# Altium integrated library TI Microcontroller MSP430 16-bit Ultra-Low Power.IntLib: 1463 symbols (part 39 of 130)
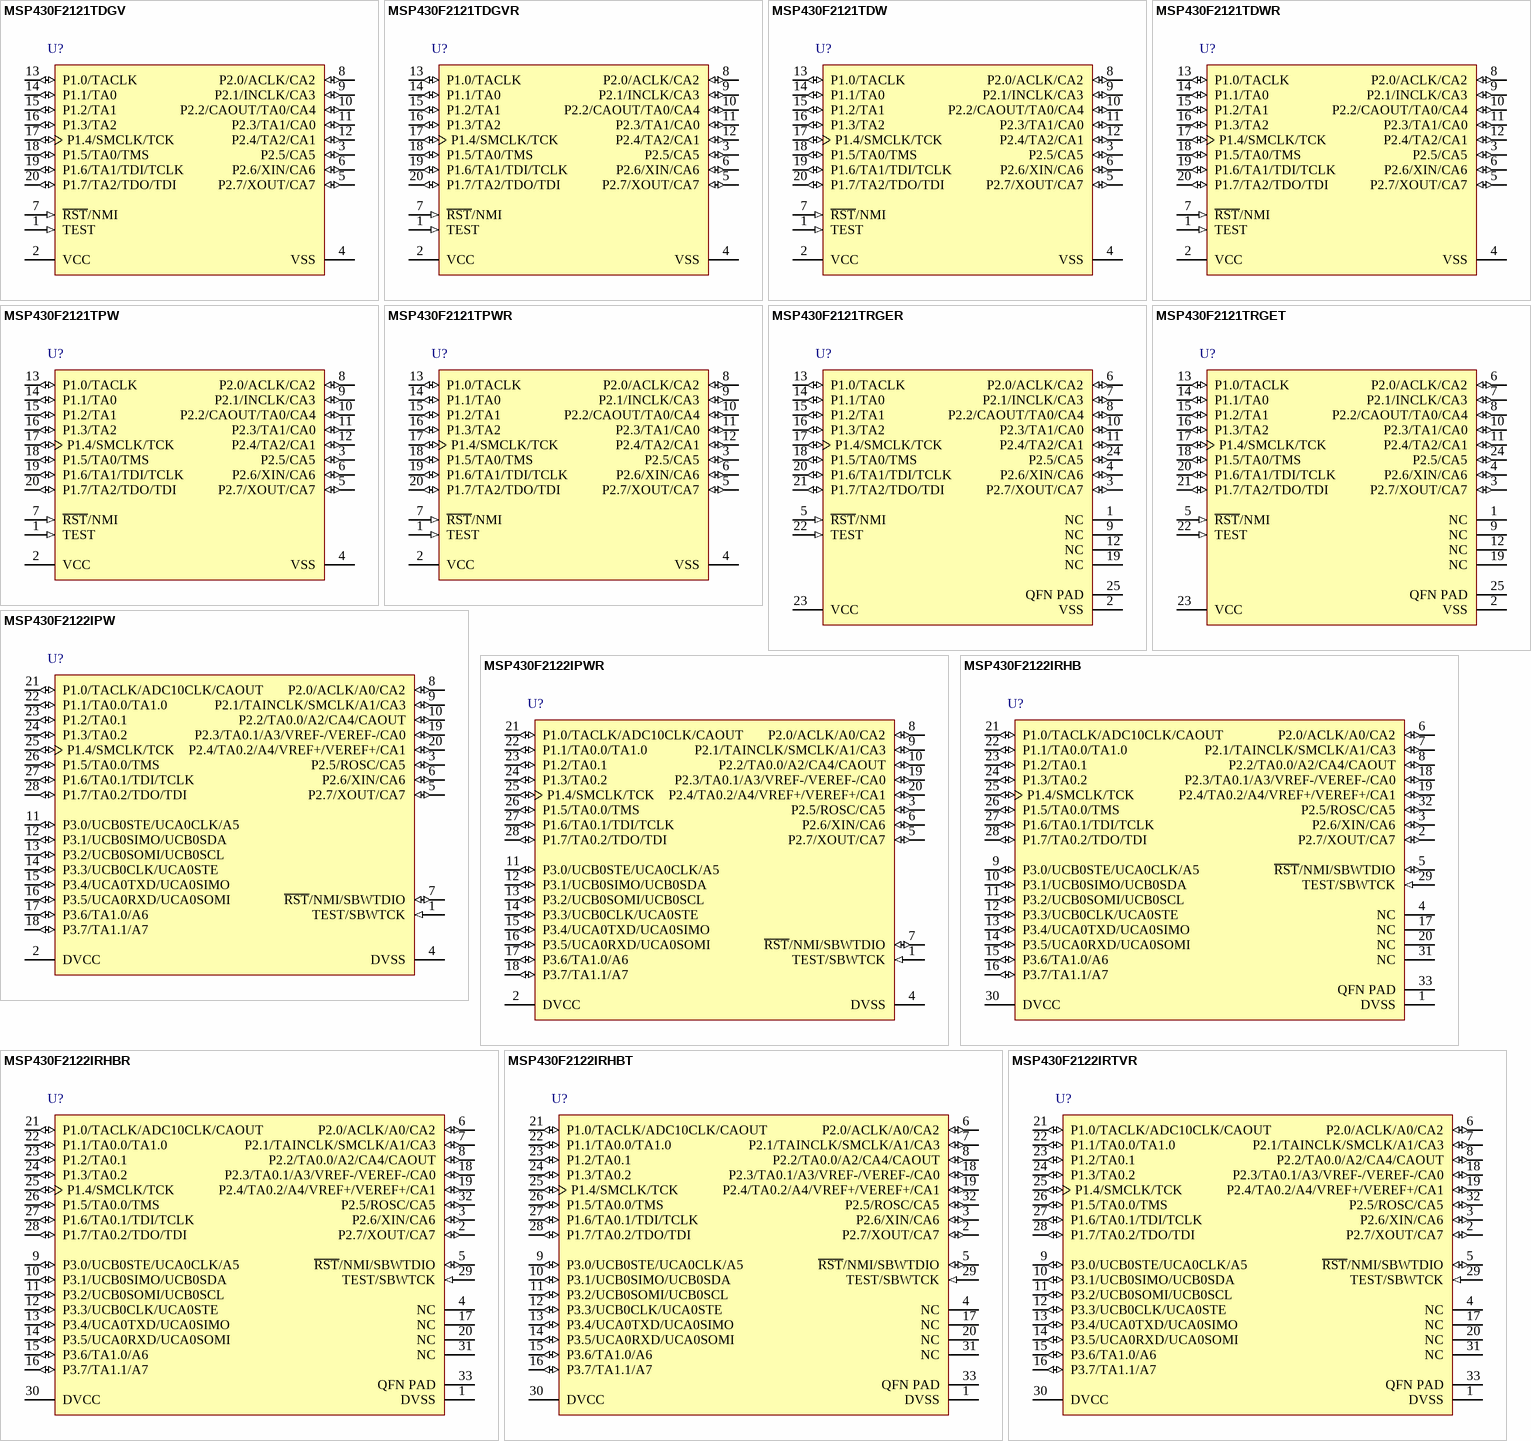
[diagram p256: symbols MSP430F2121TDGV to MSP430F2122IRTVR]

## MSP430F2122IRHB
designator U?
16 MHz Mixed Signal Microcontroller with 4 KB Flash, 512 B SRAM and 24 GPIOs, -40 to 85 degC, 32-pin QFN (RHB), Green (RoHS & no Sb/Br); Manufacturer: Texas Instruments; PartNumber: MSP430F2122IRHB; ADC: 10-bit SAR; ADC Channels: 8; Brown Out Reset: Yes; Flash(KB): 4; Frequency(MHz): 16; GPIO: 24; SRAM(B): 512; SubFamily: 2 Series, Extended Temp; Timers - 16-bit: 2; USCI_A (UART/LIN/IrDA/SPI): 1; DatasheetVersion: SLAS578J; PackageVersion: 4204326/D; PackageReference: RHB32-3450X3450TP; PackageDescription: 32-Pin Plastic Flat Pack, Body 5 x 5 mm, Pitch 0.5 mm; Supplier 1: Digi-Key; Supplier Part Number 1: 296-23363-2-ND; Supplier 2: Digi-Key; Supplier Part Number 2: 296-23363-1-ND; Supplier 3: Digi-Key; Supplier Part Number 3: 296-23363-6-ND; Supplier 4: Newark; Supplier Part Number 4: 96M3646; Supplier 5: Mouser; Supplier Part Number 5: 595-MSP430F2122IPWR; Comparators: Yes; Temp Sensor: Yes; USCI_B (I2C & SPI): 1; Watchdog: Yes; Mounting Technology: Surface Mount; Code_JEDEC: MO-220; ComponentLink1Description: Manufacturer URL; ComponentLink1URL: http://www.ti.com/; ComponentLink2Description: Datasheet; ComponentLink2URL: http://www.ti.com/general/docs/lit/getliterature.tsp?genericPartNumber=MSP430F2122&fileType=pdf; ComponentLink3Description: Package Specification; ComponentLink3URL: http://www.ti.com/lit/ml/mpqf130c/mpqf130c.pdf
footprint TI-RHB32-3450X3450TP_N (QFN, 32-Leads, Body 5x5mm, Pitch 0.5mm, Thermal Pad 3.45x3.45mm, IPC Medium Density)
pins: 1 DVSS (power) "Digital supply voltage", 2 P2.7/XOUT/CA7 (io), 3 P2.6/XIN/CA6 (io), 4 NC "Not connected internally. Connection to VSS is recommended.", 5 ~{RST}/NMI/SBWTDIO (io), 6 P2.0/ACLK/A0/CA2 (io), 7 P2.1/TAINCLK/SMCLK/A1/CA3 (io), 8 P2.2/TA0.0/A2/CA4/CAOUT (io), 9 P3.0/UCB0STE/UCA0CLK/A5 (io), 10 P3.1/UCB0SIMO/UCB0SDA (io), 11 P3.2/UCB0SOMI/UCB0SCL (io), 12 P3.3/UCB0CLK/UCA0STE (io), 13 P3.4/UCA0TXD/UCA0SIMO (io), 14 P3.5/UCA0RXD/UCA0SOMI (io), 15 P3.6/TA1.0/A6 (io), 16 P3.7/TA1.1/A7 (io), 17 NC "Not connected internally. Connection to VSS is recommended.", 18 P2.3/TA0.1/A3/VREF-/VEREF-/CA0 (io), 19 P2.4/TA0.2/A4/VREF+/VEREF+/CA1 (io), 20 NC "Not connected internally. Connection to VSS is recommended.", 21 P1.0/TACLK/ADC10CLK/CAOUT (io), 22 P1.1/TA0.0/TA1.0 (io), 23 P1.2/TA0.1 (io), 24 P1.3/TA0.2 (io), 25 P1.4/SMCLK/TCK (io), 26 P1.5/TA0.0/TMS (io), 27 P1.6/TA0.1/TDI/TCLK (io), 28 P1.7/TA0.2/TDO/TDI (io), 29 TEST/SBWTCK (in), 30 DVCC (power) "Digital supply voltage", 31 NC "Not connected internally. Connection to VSS is recommended.", 32 P2.5/ROSC/CA5 (io), 33 QFN PAD (power) "QFN package.pad (RHB, RTV packages). Connection to DVSS is recommended."

## MSP430F2122IRHBR
designator U?
16 MHz Mixed Signal Microcontroller with 4 KB Flash, 512 B SRAM and 24 GPIOs, -40 to 85 degC, 32-pin QFN (RHB), Green (RoHS & no Sb/Br); Manufacturer: Texas Instruments; PartNumber: MSP430F2122IRHBR; ADC: 10-bit SAR; ADC Channels: 8; Brown Out Reset: Yes; Flash(KB): 4; Frequency(MHz): 16; GPIO: 24; SRAM(B): 512; SubFamily: 2 Series, Extended Temp; Timers - 16-bit: 2; USCI_A (UART/LIN/IrDA/SPI): 1; DatasheetVersion: SLAS578J; PackageVersion: 4204326/D; PackageReference: RHB32-3450X3450TP; PackageDescription: 32-Pin Plastic Flat Pack, Body 5 x 5 mm, Pitch 0.5 mm; Supplier 1: Mouser; Supplier Part Number 1: N/A; Comparators: Yes; Eco-Plan: Green (RoHS & no Sb/Br); Temp Sensor: Yes; USCI_B (I2C & SPI): 1; Watchdog: Yes; Mounting Technology: Surface Mount; Code_JEDEC: MO-220; ComponentLink1Description: Manufacturer URL; ComponentLink1URL: http://www.ti.com/; ComponentLink2Description: Datasheet; ComponentLink2URL: http://www.ti.com/general/docs/lit/getliterature.tsp?genericPartNumber=MSP430F2122&fileType=pdf; ComponentLink3Description: Package Specification; ComponentLink3URL: http://www.ti.com/lit/ml/mpqf130c/mpqf130c.pdf
footprint TI-RHB32-3450X3450TP_N (QFN, 32-Leads, Body 5x5mm, Pitch 0.5mm, Thermal Pad 3.45x3.45mm, IPC Medium Density)
pins: 1 DVSS (power) "Digital supply voltage", 2 P2.7/XOUT/CA7 (io), 3 P2.6/XIN/CA6 (io), 4 NC "Not connected internally. Connection to VSS is recommended.", 5 ~{RST}/NMI/SBWTDIO (io), 6 P2.0/ACLK/A0/CA2 (io), 7 P2.1/TAINCLK/SMCLK/A1/CA3 (io), 8 P2.2/TA0.0/A2/CA4/CAOUT (io), 9 P3.0/UCB0STE/UCA0CLK/A5 (io), 10 P3.1/UCB0SIMO/UCB0SDA (io), 11 P3.2/UCB0SOMI/UCB0SCL (io), 12 P3.3/UCB0CLK/UCA0STE (io), 13 P3.4/UCA0TXD/UCA0SIMO (io), 14 P3.5/UCA0RXD/UCA0SOMI (io), 15 P3.6/TA1.0/A6 (io), 16 P3.7/TA1.1/A7 (io), 17 NC "Not connected internally. Connection to VSS is recommended.", 18 P2.3/TA0.1/A3/VREF-/VEREF-/CA0 (io), 19 P2.4/TA0.2/A4/VREF+/VEREF+/CA1 (io), 20 NC "Not connected internally. Connection to VSS is recommended.", 21 P1.0/TACLK/ADC10CLK/CAOUT (io), 22 P1.1/TA0.0/TA1.0 (io), 23 P1.2/TA0.1 (io), 24 P1.3/TA0.2 (io), 25 P1.4/SMCLK/TCK (io), 26 P1.5/TA0.0/TMS (io), 27 P1.6/TA0.1/TDI/TCLK (io), 28 P1.7/TA0.2/TDO/TDI (io), 29 TEST/SBWTCK (in), 30 DVCC (power) "Digital supply voltage", 31 NC "Not connected internally. Connection to VSS is recommended.", 32 P2.5/ROSC/CA5 (io), 33 QFN PAD (power) "QFN package.pad (RHB, RTV packages). Connection to DVSS is recommended."

## MSP430F2122IRHBT
designator U?
16 MHz Mixed Signal Microcontroller with 4 KB Flash, 512 B SRAM and 24 GPIOs, -40 to 85 degC, 32-pin QFN (RHB), Green (RoHS & no Sb/Br); Manufacturer: Texas Instruments; PartNumber: MSP430F2122IRHBT; ADC: 10-bit SAR; ADC Channels: 8; Brown Out Reset: Yes; Flash(KB): 4; Frequency(MHz): 16; GPIO: 24; SRAM(B): 512; SubFamily: 2 Series, Extended Temp; Timers - 16-bit: 2; USCI_A (UART/LIN/IrDA/SPI): 1; DatasheetVersion: SLAS578J; PackageVersion: 4204326/D; PackageReference: RHB32-3450X3450TP; PackageDescription: 32-Pin Plastic Flat Pack, Body 5 x 5 mm, Pitch 0.5 mm; Supplier 1: Digi-Key; Supplier Part Number 1: 296-23364-2-ND; Supplier 2: Digi-Key; Supplier Part Number 2: 296-23364-1-ND; Supplier 3: Digi-Key; Supplier Part Number 3: 296-23364-6-ND; Supplier 4: Farnell; Supplier Part Number 4: 1903428; Supplier 5: Newark; Supplier Part Number 5: 58T9813; Supplier 6: Newark; Supplier Part Number 6: 96M3647; Supplier 7: Mouser; Supplier Part Number 7: 595-MSP430F2122IRHBR; Comparators: Yes; Eco-Plan: Green (RoHS & no Sb/Br); Temp Sensor: Yes; USCI_B (I2C & SPI): 1; Watchdog: Yes; Mounting Technology: Surface Mount; Code_JEDEC: MO-220; ComponentLink1Description: Manufacturer URL; ComponentLink1URL: http://www.ti.com/; ComponentLink2Description: Datasheet; ComponentLink2URL: http://www.ti.com/general/docs/lit/getliterature.tsp?genericPartNumber=MSP430F2122&fileType=pdf; ComponentLink3Description: Package Specification; ComponentLink3URL: http://www.ti.com/lit/ml/mpqf130c/mpqf130c.pdf
footprint TI-RHB32-3450X3450TP_N (QFN, 32-Leads, Body 5x5mm, Pitch 0.5mm, Thermal Pad 3.45x3.45mm, IPC Medium Density)
pins: 1 DVSS (power) "Digital supply voltage", 2 P2.7/XOUT/CA7 (io), 3 P2.6/XIN/CA6 (io), 4 NC "Not connected internally. Connection to VSS is recommended.", 5 ~{RST}/NMI/SBWTDIO (io), 6 P2.0/ACLK/A0/CA2 (io), 7 P2.1/TAINCLK/SMCLK/A1/CA3 (io), 8 P2.2/TA0.0/A2/CA4/CAOUT (io), 9 P3.0/UCB0STE/UCA0CLK/A5 (io), 10 P3.1/UCB0SIMO/UCB0SDA (io), 11 P3.2/UCB0SOMI/UCB0SCL (io), 12 P3.3/UCB0CLK/UCA0STE (io), 13 P3.4/UCA0TXD/UCA0SIMO (io), 14 P3.5/UCA0RXD/UCA0SOMI (io), 15 P3.6/TA1.0/A6 (io), 16 P3.7/TA1.1/A7 (io), 17 NC "Not connected internally. Connection to VSS is recommended.", 18 P2.3/TA0.1/A3/VREF-/VEREF-/CA0 (io), 19 P2.4/TA0.2/A4/VREF+/VEREF+/CA1 (io), 20 NC "Not connected internally. Connection to VSS is recommended.", 21 P1.0/TACLK/ADC10CLK/CAOUT (io), 22 P1.1/TA0.0/TA1.0 (io), 23 P1.2/TA0.1 (io), 24 P1.3/TA0.2 (io), 25 P1.4/SMCLK/TCK (io), 26 P1.5/TA0.0/TMS (io), 27 P1.6/TA0.1/TDI/TCLK (io), 28 P1.7/TA0.2/TDO/TDI (io), 29 TEST/SBWTCK (in), 30 DVCC (power) "Digital supply voltage", 31 NC "Not connected internally. Connection to VSS is recommended.", 32 P2.5/ROSC/CA5 (io), 33 QFN PAD (power) "QFN package.pad (RHB, RTV packages). Connection to DVSS is recommended."

## MSP430F2122IRTVR
designator U?
16 MHz Mixed Signal Microcontroller with 4 KB Flash, 512 B SRAM and 24 GPIOs, -40 to 85 degC, 32-pin QFN (RTV), Green (RoHS & no Sb/Br); Manufacturer: Texas Instruments; PartNumber: MSP430F2122IRTVR; ADC: 10-bit SAR; ADC Channels: 8; Brown Out Reset: Yes; Flash(KB): 4; Frequency(MHz): 16; GPIO: 24; SRAM(B): 512; SubFamily: 2 Series, Extended Temp; Timers - 16-bit: 2; USCI_A (UART/LIN/IrDA/SPI): 1; DatasheetVersion: SLAS578J; PackageReference: RTV32-3450X3450TP; PackageDescription: 32-Pin Plastic Flat Pack, Body 5.00 x 5.00 mm, Pitch 0.50 mm; Supplier 1: Digi-Key; Supplier Part Number 1: 296-32166-2-ND; Supplier 2: Digi-Key; Supplier Part Number 2: 296-32166-1-ND; Supplier 3: Digi-Key; Supplier Part Number 3: 296-32166-6-ND; Supplier 4: Farnell; Supplier Part Number 4: 1649412; Supplier 5: Newark; Supplier Part Number 5: 96M3648; Supplier 6: Mouser; Supplier Part Number 6: 595-MSP430F2122IRHBT; Comparators: Yes; Eco-Plan: Green (RoHS & no Sb/Br); Temp Sensor: Yes; USCI_B (I2C & SPI): 1; Watchdog: Yes; Mounting Technology: Surface Mount; Code_JEDEC: MO-220; ComponentLink1Description: Manufacturer URL; ComponentLink1URL: http://www.ti.com/; ComponentLink2Description: Datasheet; ComponentLink2URL: http://www.ti.com/general/docs/lit/getliterature.tsp?genericPartNumber=MSP430F2122&fileType=pdf; ComponentLink3Description: Package Specification; ComponentLink3URL: http://www.ti.com/litv/pdf/mpqf166b
footprint TI-RTV32-3450X3450TP_N (QFN, 32-Leads, Body 5x5mm, Pitch 0.5mm, Thermal Pad 3.45x3.45mm, IPC Medium Density)
pins: 1 DVSS (power) "Digital supply voltage", 2 P2.7/XOUT/CA7 (io), 3 P2.6/XIN/CA6 (io), 4 NC "Not connected internally. Connection to VSS is recommended.", 5 ~{RST}/NMI/SBWTDIO (io), 6 P2.0/ACLK/A0/CA2 (io), 7 P2.1/TAINCLK/SMCLK/A1/CA3 (io), 8 P2.2/TA0.0/A2/CA4/CAOUT (io), 9 P3.0/UCB0STE/UCA0CLK/A5 (io), 10 P3.1/UCB0SIMO/UCB0SDA (io), 11 P3.2/UCB0SOMI/UCB0SCL (io), 12 P3.3/UCB0CLK/UCA0STE (io), 13 P3.4/UCA0TXD/UCA0SIMO (io), 14 P3.5/UCA0RXD/UCA0SOMI (io), 15 P3.6/TA1.0/A6 (io), 16 P3.7/TA1.1/A7 (io), 17 NC "Not connected internally. Connection to VSS is recommended.", 18 P2.3/TA0.1/A3/VREF-/VEREF-/CA0 (io), 19 P2.4/TA0.2/A4/VREF+/VEREF+/CA1 (io), 20 NC "Not connected internally. Connection to VSS is recommended.", 21 P1.0/TACLK/ADC10CLK/CAOUT (io), 22 P1.1/TA0.0/TA1.0 (io), 23 P1.2/TA0.1 (io), 24 P1.3/TA0.2 (io), 25 P1.4/SMCLK/TCK (io), 26 P1.5/TA0.0/TMS (io), 27 P1.6/TA0.1/TDI/TCLK (io), 28 P1.7/TA0.2/TDO/TDI (io), 29 TEST/SBWTCK (in), 30 DVCC (power) "Digital supply voltage", 31 NC "Not connected internally. Connection to VSS is recommended.", 32 P2.5/ROSC/CA5 (io), 33 QFN PAD (power) "QFN package.pad (RHB, RTV packages). Connection to DVSS is recommended."

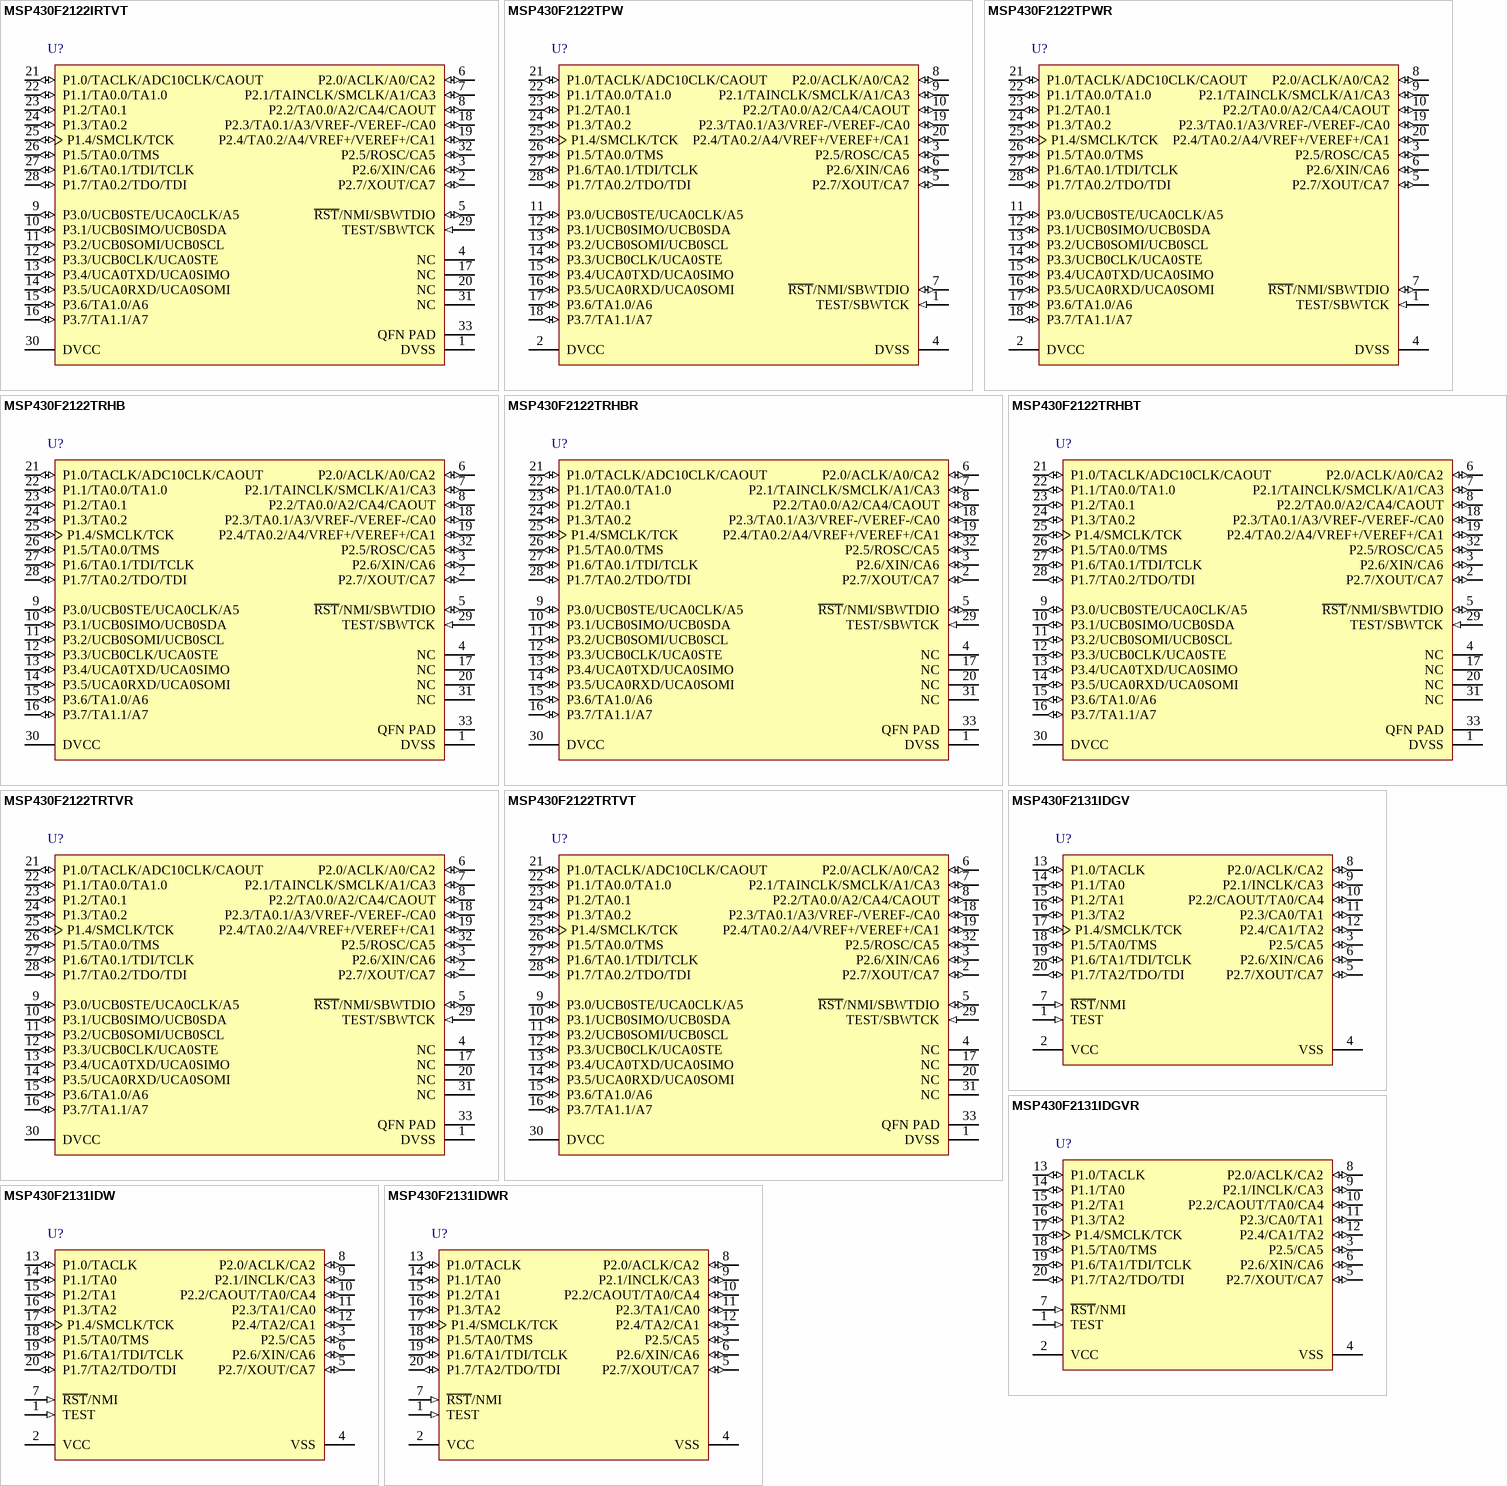
[diagram p56: symbols MSP430F2122IRTVT to MSP430F2131IDWR]

## MSP430F2122IRTVT
designator U?
16 MHz Mixed Signal Microcontroller with 4 KB Flash, 512 B SRAM and 24 GPIOs, -40 to 85 degC, 32-pin QFN (RTV), Green (RoHS & no Sb/Br); Manufacturer: Texas Instruments; PartNumber: MSP430F2122IRTVT; ADC: 10-bit SAR; ADC Channels: 8; Brown Out Reset: Yes; Flash(KB): 4; Frequency(MHz): 16; GPIO: 24; SRAM(B): 512; SubFamily: 2 Series, Extended Temp; Timers - 16-bit: 2; USCI_A (UART/LIN/IrDA/SPI): 1; DatasheetVersion: SLAS578J; PackageReference: RTV32-3450X3450TP; PackageDescription: 32-Pin Plastic Flat Pack, Body 5.00 x 5.00 mm, Pitch 0.50 mm; Supplier 1: Digi-Key; Supplier Part Number 1: MSP430F2122IRTVR-ND; Supplier 2: Mouser; Supplier Part Number 2: 595-MSP430F2122IRTVR; Comparators: Yes; Eco-Plan: Green (RoHS & no Sb/Br); Temp Sensor: Yes; USCI_B (I2C & SPI): 1; Watchdog: Yes; Mounting Technology: Surface Mount; Code_JEDEC: MO-220; ComponentLink1Description: Manufacturer URL; ComponentLink1URL: http://www.ti.com/; ComponentLink2Description: Datasheet; ComponentLink2URL: http://www.ti.com/general/docs/lit/getliterature.tsp?genericPartNumber=MSP430F2122&fileType=pdf; ComponentLink3Description: Package Specification; ComponentLink3URL: http://www.ti.com/litv/pdf/mpqf166b
footprint TI-RTV32-3450X3450TP_N (QFN, 32-Leads, Body 5x5mm, Pitch 0.5mm, Thermal Pad 3.45x3.45mm, IPC Medium Density)
pins: 1 DVSS (power) "Digital supply voltage", 2 P2.7/XOUT/CA7 (io), 3 P2.6/XIN/CA6 (io), 4 NC "Not connected internally. Connection to VSS is recommended.", 5 ~{RST}/NMI/SBWTDIO (io), 6 P2.0/ACLK/A0/CA2 (io), 7 P2.1/TAINCLK/SMCLK/A1/CA3 (io), 8 P2.2/TA0.0/A2/CA4/CAOUT (io), 9 P3.0/UCB0STE/UCA0CLK/A5 (io), 10 P3.1/UCB0SIMO/UCB0SDA (io), 11 P3.2/UCB0SOMI/UCB0SCL (io), 12 P3.3/UCB0CLK/UCA0STE (io), 13 P3.4/UCA0TXD/UCA0SIMO (io), 14 P3.5/UCA0RXD/UCA0SOMI (io), 15 P3.6/TA1.0/A6 (io), 16 P3.7/TA1.1/A7 (io), 17 NC "Not connected internally. Connection to VSS is recommended.", 18 P2.3/TA0.1/A3/VREF-/VEREF-/CA0 (io), 19 P2.4/TA0.2/A4/VREF+/VEREF+/CA1 (io), 20 NC "Not connected internally. Connection to VSS is recommended.", 21 P1.0/TACLK/ADC10CLK/CAOUT (io), 22 P1.1/TA0.0/TA1.0 (io), 23 P1.2/TA0.1 (io), 24 P1.3/TA0.2 (io), 25 P1.4/SMCLK/TCK (io), 26 P1.5/TA0.0/TMS (io), 27 P1.6/TA0.1/TDI/TCLK (io), 28 P1.7/TA0.2/TDO/TDI (io), 29 TEST/SBWTCK (in), 30 DVCC (power) "Digital supply voltage", 31 NC "Not connected internally. Connection to VSS is recommended.", 32 P2.5/ROSC/CA5 (io), 33 QFN PAD (power) "QFN package.pad (RHB, RTV packages). Connection to DVSS is recommended."

## MSP430F2122TPW
designator U?
16 MHz Mixed Signal Microcontroller with 4 KB Flash, 512 B SRAM and 24 GPIOs, -40 to 105 degC, 28-pin SOP (PW), Green (RoHS & no Sb/Br); Manufacturer: Texas Instruments; PartNumber: MSP430F2122TPW; ADC: 10-bit SAR; ADC Channels: 8; Brown Out Reset: Yes; Flash(KB): 4; Frequency(MHz): 16; GPIO: 24; SRAM(B): 512; SubFamily: 2 Series, Extended Temp; Timers - 16-bit: 2; USCI_A (UART/LIN/IrDA/SPI): 1; DatasheetVersion: SLAS578J; PackageVersion: 4040064-7/G; PackageReference: PW28; PackageDescription: 28-Pin Plastic Small Outline, Body 9.7 x 4.4 mm, Pitch 0.65 mm; Supplier 1: Digi-Key; Supplier Part Number 1: MSP430F2122IRTVT-ND; Supplier 2: Mouser; Supplier Part Number 2: 595-MSP430F2122IRTVT; Comparators: Yes; Eco-Plan: Green (RoHS & no Sb/Br); Temp Sensor: Yes; USCI_B (I2C & SPI): 1; Watchdog: Yes; Mounting Technology: Surface Mount; Code_JEDEC: MO-153; ComponentLink1Description: Manufacturer URL; ComponentLink1URL: http://www.ti.com/; ComponentLink2Description: Datasheet; ComponentLink2URL: http://www.ti.com/general/docs/lit/getliterature.tsp?genericPartNumber=MSP430F2122&fileType=pdf; ComponentLink3Description: Package Specification; ComponentLink3URL: http://www.ti.com/litv/pdf/mpds364
footprint TI-PW28_N (SOP, 28-Leads, Body 9.7x4.4mm, Pitch 0.65mm, IPC Medium Density)
pins: 1 TEST/SBWTCK (in), 2 DVCC (power) "Digital supply voltage", 3 P2.5/ROSC/CA5 (io), 4 DVSS (power) "Digital supply voltage", 5 P2.7/XOUT/CA7 (io), 6 P2.6/XIN/CA6 (io), 7 ~{RST}/NMI/SBWTDIO (io), 8 P2.0/ACLK/A0/CA2 (io), 9 P2.1/TAINCLK/SMCLK/A1/CA3 (io), 10 P2.2/TA0.0/A2/CA4/CAOUT (io), 11 P3.0/UCB0STE/UCA0CLK/A5 (io), 12 P3.1/UCB0SIMO/UCB0SDA (io), 13 P3.2/UCB0SOMI/UCB0SCL (io), 14 P3.3/UCB0CLK/UCA0STE (io), 15 P3.4/UCA0TXD/UCA0SIMO (io), 16 P3.5/UCA0RXD/UCA0SOMI (io), 17 P3.6/TA1.0/A6 (io), 18 P3.7/TA1.1/A7 (io), 19 P2.3/TA0.1/A3/VREF-/VEREF-/CA0 (io), 20 P2.4/TA0.2/A4/VREF+/VEREF+/CA1 (io), 21 P1.0/TACLK/ADC10CLK/CAOUT (io), 22 P1.1/TA0.0/TA1.0 (io), 23 P1.2/TA0.1 (io), 24 P1.3/TA0.2 (io), 25 P1.4/SMCLK/TCK (io), 26 P1.5/TA0.0/TMS (io), 27 P1.6/TA0.1/TDI/TCLK (io), 28 P1.7/TA0.2/TDO/TDI (io)

## MSP430F2122TPWR
designator U?
16 MHz Mixed Signal Microcontroller with 4 KB Flash, 512 B SRAM and 24 GPIOs, -40 to 105 degC, 28-pin SOP (PW), Green (RoHS & no Sb/Br); Manufacturer: Texas Instruments; PartNumber: MSP430F2122TPWR; ADC: 10-bit SAR; ADC Channels: 8; Brown Out Reset: Yes; Flash(KB): 4; Frequency(MHz): 16; GPIO: 24; SRAM(B): 512; SubFamily: 2 Series, Extended Temp; Timers - 16-bit: 2; USCI_A (UART/LIN/IrDA/SPI): 1; DatasheetVersion: SLAS578J; PackageVersion: 4040064-7/G; PackageReference: PW28; PackageDescription: 28-Pin Plastic Small Outline, Body 9.7 x 4.4 mm, Pitch 0.65 mm; Supplier 1: Digi-Key; Supplier Part Number 1: 296-33424-5-ND; Supplier 2: Farnell; Supplier Part Number 2: 1753281; Supplier 3: Newark; Supplier Part Number 3: 93R5541; Supplier 4: Mouser; Supplier Part Number 4: 595-MSP430F2122TPW; Comparators: Yes; Eco-Plan: Green (RoHS & no Sb/Br); Temp Sensor: Yes; USCI_B (I2C & SPI): 1; Watchdog: Yes; Mounting Technology: Surface Mount; Code_JEDEC: MO-153; ComponentLink1Description: Manufacturer URL; ComponentLink1URL: http://www.ti.com/; ComponentLink2Description: Datasheet; ComponentLink2URL: http://www.ti.com/general/docs/lit/getliterature.tsp?genericPartNumber=MSP430F2122&fileType=pdf; ComponentLink3Description: Package Specification; ComponentLink3URL: http://www.ti.com/litv/pdf/mpds364
footprint TI-PW28_N (SOP, 28-Leads, Body 9.7x4.4mm, Pitch 0.65mm, IPC Medium Density)
pins: 1 TEST/SBWTCK (in), 2 DVCC (power) "Digital supply voltage", 3 P2.5/ROSC/CA5 (io), 4 DVSS (power) "Digital supply voltage", 5 P2.7/XOUT/CA7 (io), 6 P2.6/XIN/CA6 (io), 7 ~{RST}/NMI/SBWTDIO (io), 8 P2.0/ACLK/A0/CA2 (io), 9 P2.1/TAINCLK/SMCLK/A1/CA3 (io), 10 P2.2/TA0.0/A2/CA4/CAOUT (io), 11 P3.0/UCB0STE/UCA0CLK/A5 (io), 12 P3.1/UCB0SIMO/UCB0SDA (io), 13 P3.2/UCB0SOMI/UCB0SCL (io), 14 P3.3/UCB0CLK/UCA0STE (io), 15 P3.4/UCA0TXD/UCA0SIMO (io), 16 P3.5/UCA0RXD/UCA0SOMI (io), 17 P3.6/TA1.0/A6 (io), 18 P3.7/TA1.1/A7 (io), 19 P2.3/TA0.1/A3/VREF-/VEREF-/CA0 (io), 20 P2.4/TA0.2/A4/VREF+/VEREF+/CA1 (io), 21 P1.0/TACLK/ADC10CLK/CAOUT (io), 22 P1.1/TA0.0/TA1.0 (io), 23 P1.2/TA0.1 (io), 24 P1.3/TA0.2 (io), 25 P1.4/SMCLK/TCK (io), 26 P1.5/TA0.0/TMS (io), 27 P1.6/TA0.1/TDI/TCLK (io), 28 P1.7/TA0.2/TDO/TDI (io)

## MSP430F2122TRHB
designator U?
16 MHz Mixed Signal Microcontroller with 4 KB Flash, 512 B SRAM and 24 GPIOs, -40 to 105 degC, 32-pin QFN (RHB), Green (RoHS & no Sb/Br); Manufacturer: Texas Instruments; PartNumber: MSP430F2122TRHB; ADC: 10-bit SAR; ADC Channels: 8; Brown Out Reset: Yes; Flash(KB): 4; Frequency(MHz): 16; GPIO: 24; SRAM(B): 512; SubFamily: 2 Series, Extended Temp; Timers - 16-bit: 2; USCI_A (UART/LIN/IrDA/SPI): 1; DatasheetVersion: SLAS578J; PackageVersion: 4204326/D; PackageReference: RHB32-3450X3450TP; PackageDescription: 32-Pin Plastic Flat Pack, Body 5 x 5 mm, Pitch 0.5 mm; Supplier 1: Digi-Key; Supplier Part Number 1: 296-23365-2-ND; Supplier 2: Digi-Key; Supplier Part Number 2: 296-23365-1-ND; Supplier 3: Digi-Key; Supplier Part Number 3: 296-23365-6-ND; Supplier 4: Newark; Supplier Part Number 4: 96M3650; Supplier 5: Mouser; Supplier Part Number 5: 595-MSP430F2122TPWR; Comparators: Yes; Temp Sensor: Yes; USCI_B (I2C & SPI): 1; Watchdog: Yes; Mounting Technology: Surface Mount; Code_JEDEC: MO-220; ComponentLink1Description: Manufacturer URL; ComponentLink1URL: http://www.ti.com/; ComponentLink2Description: Datasheet; ComponentLink2URL: http://www.ti.com/general/docs/lit/getliterature.tsp?genericPartNumber=MSP430F2122&fileType=pdf; ComponentLink3Description: Package Specification; ComponentLink3URL: http://www.ti.com/lit/ml/mpqf130c/mpqf130c.pdf
footprint TI-RHB32-3450X3450TP_N (QFN, 32-Leads, Body 5x5mm, Pitch 0.5mm, Thermal Pad 3.45x3.45mm, IPC Medium Density)
pins: 1 DVSS (power) "Digital supply voltage", 2 P2.7/XOUT/CA7 (io), 3 P2.6/XIN/CA6 (io), 4 NC "Not connected internally. Connection to VSS is recommended.", 5 ~{RST}/NMI/SBWTDIO (io), 6 P2.0/ACLK/A0/CA2 (io), 7 P2.1/TAINCLK/SMCLK/A1/CA3 (io), 8 P2.2/TA0.0/A2/CA4/CAOUT (io), 9 P3.0/UCB0STE/UCA0CLK/A5 (io), 10 P3.1/UCB0SIMO/UCB0SDA (io), 11 P3.2/UCB0SOMI/UCB0SCL (io), 12 P3.3/UCB0CLK/UCA0STE (io), 13 P3.4/UCA0TXD/UCA0SIMO (io), 14 P3.5/UCA0RXD/UCA0SOMI (io), 15 P3.6/TA1.0/A6 (io), 16 P3.7/TA1.1/A7 (io), 17 NC "Not connected internally. Connection to VSS is recommended.", 18 P2.3/TA0.1/A3/VREF-/VEREF-/CA0 (io), 19 P2.4/TA0.2/A4/VREF+/VEREF+/CA1 (io), 20 NC "Not connected internally. Connection to VSS is recommended.", 21 P1.0/TACLK/ADC10CLK/CAOUT (io), 22 P1.1/TA0.0/TA1.0 (io), 23 P1.2/TA0.1 (io), 24 P1.3/TA0.2 (io), 25 P1.4/SMCLK/TCK (io), 26 P1.5/TA0.0/TMS (io), 27 P1.6/TA0.1/TDI/TCLK (io), 28 P1.7/TA0.2/TDO/TDI (io), 29 TEST/SBWTCK (in), 30 DVCC (power) "Digital supply voltage", 31 NC "Not connected internally. Connection to VSS is recommended.", 32 P2.5/ROSC/CA5 (io), 33 QFN PAD (power) "QFN package.pad (RHB, RTV packages). Connection to DVSS is recommended."

## MSP430F2122TRHBR
designator U?
16 MHz Mixed Signal Microcontroller with 4 KB Flash, 512 B SRAM and 24 GPIOs, -40 to 105 degC, 32-pin QFN (RHB), Green (RoHS & no Sb/Br); Manufacturer: Texas Instruments; PartNumber: MSP430F2122TRHBR; ADC: 10-bit SAR; ADC Channels: 8; Brown Out Reset: Yes; Flash(KB): 4; Frequency(MHz): 16; GPIO: 24; SRAM(B): 512; SubFamily: 2 Series, Extended Temp; Timers - 16-bit: 2; USCI_A (UART/LIN/IrDA/SPI): 1; DatasheetVersion: SLAS578J; PackageVersion: 4204326/D; PackageReference: RHB32-3450X3450TP; PackageDescription: 32-Pin Plastic Flat Pack, Body 5 x 5 mm, Pitch 0.5 mm; Supplier 1: Mouser; Supplier Part Number 1: N/A; Comparators: Yes; Eco-Plan: Green (RoHS & no Sb/Br); Temp Sensor: Yes; USCI_B (I2C & SPI): 1; Watchdog: Yes; Mounting Technology: Surface Mount; Code_JEDEC: MO-220; ComponentLink1Description: Manufacturer URL; ComponentLink1URL: http://www.ti.com/; ComponentLink2Description: Datasheet; ComponentLink2URL: http://www.ti.com/general/docs/lit/getliterature.tsp?genericPartNumber=MSP430F2122&fileType=pdf; ComponentLink3Description: Package Specification; ComponentLink3URL: http://www.ti.com/lit/ml/mpqf130c/mpqf130c.pdf
footprint TI-RHB32-3450X3450TP_N (QFN, 32-Leads, Body 5x5mm, Pitch 0.5mm, Thermal Pad 3.45x3.45mm, IPC Medium Density)
pins: 1 DVSS (power) "Digital supply voltage", 2 P2.7/XOUT/CA7 (io), 3 P2.6/XIN/CA6 (io), 4 NC "Not connected internally. Connection to VSS is recommended.", 5 ~{RST}/NMI/SBWTDIO (io), 6 P2.0/ACLK/A0/CA2 (io), 7 P2.1/TAINCLK/SMCLK/A1/CA3 (io), 8 P2.2/TA0.0/A2/CA4/CAOUT (io), 9 P3.0/UCB0STE/UCA0CLK/A5 (io), 10 P3.1/UCB0SIMO/UCB0SDA (io), 11 P3.2/UCB0SOMI/UCB0SCL (io), 12 P3.3/UCB0CLK/UCA0STE (io), 13 P3.4/UCA0TXD/UCA0SIMO (io), 14 P3.5/UCA0RXD/UCA0SOMI (io), 15 P3.6/TA1.0/A6 (io), 16 P3.7/TA1.1/A7 (io), 17 NC "Not connected internally. Connection to VSS is recommended.", 18 P2.3/TA0.1/A3/VREF-/VEREF-/CA0 (io), 19 P2.4/TA0.2/A4/VREF+/VEREF+/CA1 (io), 20 NC "Not connected internally. Connection to VSS is recommended.", 21 P1.0/TACLK/ADC10CLK/CAOUT (io), 22 P1.1/TA0.0/TA1.0 (io), 23 P1.2/TA0.1 (io), 24 P1.3/TA0.2 (io), 25 P1.4/SMCLK/TCK (io), 26 P1.5/TA0.0/TMS (io), 27 P1.6/TA0.1/TDI/TCLK (io), 28 P1.7/TA0.2/TDO/TDI (io), 29 TEST/SBWTCK (in), 30 DVCC (power) "Digital supply voltage", 31 NC "Not connected internally. Connection to VSS is recommended.", 32 P2.5/ROSC/CA5 (io), 33 QFN PAD (power) "QFN package.pad (RHB, RTV packages). Connection to DVSS is recommended."

## MSP430F2122TRHBT
designator U?
16 MHz Mixed Signal Microcontroller with 4 KB Flash, 512 B SRAM and 24 GPIOs, -40 to 105 degC, 32-pin QFN (RHB), Green (RoHS & no Sb/Br); Manufacturer: Texas Instruments; PartNumber: MSP430F2122TRHBT; ADC: 10-bit SAR; ADC Channels: 8; Brown Out Reset: Yes; Flash(KB): 4; Frequency(MHz): 16; GPIO: 24; SRAM(B): 512; SubFamily: 2 Series, Extended Temp; Timers - 16-bit: 2; USCI_A (UART/LIN/IrDA/SPI): 1; DatasheetVersion: SLAS578J; PackageVersion: 4204326/D; PackageReference: RHB32-3450X3450TP; PackageDescription: 32-Pin Plastic Flat Pack, Body 5 x 5 mm, Pitch 0.5 mm; Supplier 1: Digi-Key; Supplier Part Number 1: 296-23366-2-ND; Supplier 2: Digi-Key; Supplier Part Number 2: 296-23366-1-ND; Supplier 3: Digi-Key; Supplier Part Number 3: 296-23366-6-ND; Supplier 4: Mouser; Supplier Part Number 4: 595-MSP430F2122TRHBR; Comparators: Yes; Eco-Plan: Green (RoHS & no Sb/Br); Temp Sensor: Yes; USCI_B (I2C & SPI): 1; Watchdog: Yes; Mounting Technology: Surface Mount; Code_JEDEC: MO-220; ComponentLink1Description: Manufacturer URL; ComponentLink1URL: http://www.ti.com/; ComponentLink2Description: Datasheet; ComponentLink2URL: http://www.ti.com/general/docs/lit/getliterature.tsp?genericPartNumber=MSP430F2122&fileType=pdf; ComponentLink3Description: Package Specification; ComponentLink3URL: http://www.ti.com/lit/ml/mpqf130c/mpqf130c.pdf
footprint TI-RHB32-3450X3450TP_N (QFN, 32-Leads, Body 5x5mm, Pitch 0.5mm, Thermal Pad 3.45x3.45mm, IPC Medium Density)
pins: 1 DVSS (power) "Digital supply voltage", 2 P2.7/XOUT/CA7 (io), 3 P2.6/XIN/CA6 (io), 4 NC "Not connected internally. Connection to VSS is recommended.", 5 ~{RST}/NMI/SBWTDIO (io), 6 P2.0/ACLK/A0/CA2 (io), 7 P2.1/TAINCLK/SMCLK/A1/CA3 (io), 8 P2.2/TA0.0/A2/CA4/CAOUT (io), 9 P3.0/UCB0STE/UCA0CLK/A5 (io), 10 P3.1/UCB0SIMO/UCB0SDA (io), 11 P3.2/UCB0SOMI/UCB0SCL (io), 12 P3.3/UCB0CLK/UCA0STE (io), 13 P3.4/UCA0TXD/UCA0SIMO (io), 14 P3.5/UCA0RXD/UCA0SOMI (io), 15 P3.6/TA1.0/A6 (io), 16 P3.7/TA1.1/A7 (io), 17 NC "Not connected internally. Connection to VSS is recommended.", 18 P2.3/TA0.1/A3/VREF-/VEREF-/CA0 (io), 19 P2.4/TA0.2/A4/VREF+/VEREF+/CA1 (io), 20 NC "Not connected internally. Connection to VSS is recommended.", 21 P1.0/TACLK/ADC10CLK/CAOUT (io), 22 P1.1/TA0.0/TA1.0 (io), 23 P1.2/TA0.1 (io), 24 P1.3/TA0.2 (io), 25 P1.4/SMCLK/TCK (io), 26 P1.5/TA0.0/TMS (io), 27 P1.6/TA0.1/TDI/TCLK (io), 28 P1.7/TA0.2/TDO/TDI (io), 29 TEST/SBWTCK (in), 30 DVCC (power) "Digital supply voltage", 31 NC "Not connected internally. Connection to VSS is recommended.", 32 P2.5/ROSC/CA5 (io), 33 QFN PAD (power) "QFN package.pad (RHB, RTV packages). Connection to DVSS is recommended."

## MSP430F2122TRTVR
designator U?
16 MHz Mixed Signal Microcontroller with 4 KB Flash, 512 B SRAM and 24 GPIOs, -40 to 105 degC, 32-pin QFN (RTV), Green (RoHS & no Sb/Br); Manufacturer: Texas Instruments; PartNumber: MSP430F2122TRTVR; ADC: 10-bit SAR; ADC Channels: 8; Brown Out Reset: Yes; Flash(KB): 4; Frequency(MHz): 16; GPIO: 24; SRAM(B): 512; SubFamily: 2 Series, Extended Temp; Timers - 16-bit: 2; USCI_A (UART/LIN/IrDA/SPI): 1; DatasheetVersion: SLAS578J; PackageReference: RTV32-3450X3450TP; PackageDescription: 32-Pin Plastic Flat Pack, Body 5.00 x 5.00 mm, Pitch 0.50 mm; Supplier 1: Digi-Key; Supplier Part Number 1: 296-32167-2-ND; Supplier 2: Digi-Key; Supplier Part Number 2: 296-32167-1-ND; Supplier 3: Digi-Key; Supplier Part Number 3: 296-32167-6-ND; Supplier 4: Farnell; Supplier Part Number 4: 1753282; Supplier 5: Mouser; Supplier Part Number 5: 595-MSP430F2122TRHBT; Comparators: Yes; Eco-Plan: Green (RoHS & no Sb/Br); Temp Sensor: Yes; USCI_B (I2C & SPI): 1; Watchdog: Yes; Mounting Technology: Surface Mount; Code_JEDEC: MO-220; ComponentLink1Description: Manufacturer URL; ComponentLink1URL: http://www.ti.com/; ComponentLink2Description: Datasheet; ComponentLink2URL: http://www.ti.com/general/docs/lit/getliterature.tsp?genericPartNumber=MSP430F2122&fileType=pdf; ComponentLink3Description: Package Specification; ComponentLink3URL: http://www.ti.com/litv/pdf/mpqf166b
footprint TI-RTV32-3450X3450TP_N (QFN, 32-Leads, Body 5x5mm, Pitch 0.5mm, Thermal Pad 3.45x3.45mm, IPC Medium Density)
pins: 1 DVSS (power) "Digital supply voltage", 2 P2.7/XOUT/CA7 (io), 3 P2.6/XIN/CA6 (io), 4 NC "Not connected internally. Connection to VSS is recommended.", 5 ~{RST}/NMI/SBWTDIO (io), 6 P2.0/ACLK/A0/CA2 (io), 7 P2.1/TAINCLK/SMCLK/A1/CA3 (io), 8 P2.2/TA0.0/A2/CA4/CAOUT (io), 9 P3.0/UCB0STE/UCA0CLK/A5 (io), 10 P3.1/UCB0SIMO/UCB0SDA (io), 11 P3.2/UCB0SOMI/UCB0SCL (io), 12 P3.3/UCB0CLK/UCA0STE (io), 13 P3.4/UCA0TXD/UCA0SIMO (io), 14 P3.5/UCA0RXD/UCA0SOMI (io), 15 P3.6/TA1.0/A6 (io), 16 P3.7/TA1.1/A7 (io), 17 NC "Not connected internally. Connection to VSS is recommended.", 18 P2.3/TA0.1/A3/VREF-/VEREF-/CA0 (io), 19 P2.4/TA0.2/A4/VREF+/VEREF+/CA1 (io), 20 NC "Not connected internally. Connection to VSS is recommended.", 21 P1.0/TACLK/ADC10CLK/CAOUT (io), 22 P1.1/TA0.0/TA1.0 (io), 23 P1.2/TA0.1 (io), 24 P1.3/TA0.2 (io), 25 P1.4/SMCLK/TCK (io), 26 P1.5/TA0.0/TMS (io), 27 P1.6/TA0.1/TDI/TCLK (io), 28 P1.7/TA0.2/TDO/TDI (io), 29 TEST/SBWTCK (in), 30 DVCC (power) "Digital supply voltage", 31 NC "Not connected internally. Connection to VSS is recommended.", 32 P2.5/ROSC/CA5 (io), 33 QFN PAD (power) "QFN package.pad (RHB, RTV packages). Connection to DVSS is recommended."

## MSP430F2122TRTVT
designator U?
16 MHz Mixed Signal Microcontroller with 4 KB Flash, 512 B SRAM and 24 GPIOs, -40 to 105 degC, 32-pin QFN (RTV), Green (RoHS & no Sb/Br); Manufacturer: Texas Instruments; PartNumber: MSP430F2122TRTVT; ADC: 10-bit SAR; ADC Channels: 8; Brown Out Reset: Yes; Flash(KB): 4; Frequency(MHz): 16; GPIO: 24; SRAM(B): 512; SubFamily: 2 Series, Extended Temp; Timers - 16-bit: 2; USCI_A (UART/LIN/IrDA/SPI): 1; DatasheetVersion: SLAS578J; PackageReference: RTV32-3450X3450TP; PackageDescription: 32-Pin Plastic Flat Pack, Body 5.00 x 5.00 mm, Pitch 0.50 mm; Supplier 1: Digi-Key; Supplier Part Number 1: MSP430F2122TRTVR-ND; Supplier 2: Mouser; Supplier Part Number 2: 595-MSP430F2122TRTVR; Comparators: Yes; Eco-Plan: Green (RoHS & no Sb/Br); Temp Sensor: Yes; USCI_B (I2C & SPI): 1; Watchdog: Yes; Mounting Technology: Surface Mount; Code_JEDEC: MO-220; ComponentLink1Description: Manufacturer URL; ComponentLink1URL: http://www.ti.com/; ComponentLink2Description: Datasheet; ComponentLink2URL: http://www.ti.com/general/docs/lit/getliterature.tsp?genericPartNumber=MSP430F2122&fileType=pdf; ComponentLink3Description: Package Specification; ComponentLink3URL: http://www.ti.com/litv/pdf/mpqf166b
footprint TI-RTV32-3450X3450TP_N (QFN, 32-Leads, Body 5x5mm, Pitch 0.5mm, Thermal Pad 3.45x3.45mm, IPC Medium Density)
pins: 1 DVSS (power) "Digital supply voltage", 2 P2.7/XOUT/CA7 (io), 3 P2.6/XIN/CA6 (io), 4 NC "Not connected internally. Connection to VSS is recommended.", 5 ~{RST}/NMI/SBWTDIO (io), 6 P2.0/ACLK/A0/CA2 (io), 7 P2.1/TAINCLK/SMCLK/A1/CA3 (io), 8 P2.2/TA0.0/A2/CA4/CAOUT (io), 9 P3.0/UCB0STE/UCA0CLK/A5 (io), 10 P3.1/UCB0SIMO/UCB0SDA (io), 11 P3.2/UCB0SOMI/UCB0SCL (io), 12 P3.3/UCB0CLK/UCA0STE (io), 13 P3.4/UCA0TXD/UCA0SIMO (io), 14 P3.5/UCA0RXD/UCA0SOMI (io), 15 P3.6/TA1.0/A6 (io), 16 P3.7/TA1.1/A7 (io), 17 NC "Not connected internally. Connection to VSS is recommended.", 18 P2.3/TA0.1/A3/VREF-/VEREF-/CA0 (io), 19 P2.4/TA0.2/A4/VREF+/VEREF+/CA1 (io), 20 NC "Not connected internally. Connection to VSS is recommended.", 21 P1.0/TACLK/ADC10CLK/CAOUT (io), 22 P1.1/TA0.0/TA1.0 (io), 23 P1.2/TA0.1 (io), 24 P1.3/TA0.2 (io), 25 P1.4/SMCLK/TCK (io), 26 P1.5/TA0.0/TMS (io), 27 P1.6/TA0.1/TDI/TCLK (io), 28 P1.7/TA0.2/TDO/TDI (io), 29 TEST/SBWTCK (in), 30 DVCC (power) "Digital supply voltage", 31 NC "Not connected internally. Connection to VSS is recommended.", 32 P2.5/ROSC/CA5 (io), 33 QFN PAD (power) "QFN package.pad (RHB, RTV packages). Connection to DVSS is recommended."

## MSP430F2131IDGV
designator U?
16 MHz Mixed Signal Microcontroller with 8 KB Flash, 256 B SRAM and 16 GPIOs, -40 to 85 degC, 20-pin SOP (DGV), Green (RoHS & no Sb/Br); Manufacturer: Texas Instruments; PartNumber: MSP430F2131IDGV; ADC: Slope; Brown Out Reset: Yes; Flash(KB): 8; Frequency(MHz): 16; SRAM(B): 256; SubFamily: 2 Series, Extended Temp; Timers - 16-bit: 1; DatasheetVersion: SLAS439F; PackageVersion: 4073251/E; PackageReference: DGV20; PackageDescription: 20-Pin Plastic Small Outline, Body 4.4 x 5 mm, Pitch 0.4 mm; Supplier 1: Digi-Key; Supplier Part Number 1: 296-30058-2-ND; Supplier 2: Digi-Key; Supplier Part Number 2: 296-30058-1-ND; Supplier 3: Digi-Key; Supplier Part Number 3: 296-30058-6-ND; Supplier 4: Farnell; Supplier Part Number 4: 2072177; Supplier 5: Newark; Supplier Part Number 5: 74T4605; Supplier 6: Newark; Supplier Part Number 6: 76T0382; Supplier 7: Mouser; Supplier Part Number 7: 595-MSP430F2122TRTVT; Comparators: Yes; Eco-Plan: Green (RoHS & no Sb/Br); GPIO: 16; Watchdog: Yes; Mounting Technology: Surface Mount; Code_JEDEC: MO-194; ComponentLink1Description: Manufacturer URL; ComponentLink1URL: http://www.ti.com/; ComponentLink2Description: Datasheet; ComponentLink2URL: http://www.ti.com/general/docs/lit/getliterature.tsp?genericPartNumber=MSP430F2131&fileType=pdf; ComponentLink3Description: Package Specification; ComponentLink3URL: http://www.ti.com/lit/ml/mpds006c/mpds006c.pdf
footprint TI-DGV20_N (SOP, 20-Leads, Body 5x4.4mm, Pitch 0.4mm, IPC Medium Density)
pins: 1 TEST (in) "Selects test mode for JTAG pins on Port1. The device protection fuse is connected to TEST.", 2 VCC (power) "Supply voltage", 3 P2.5/CA5 (io), 4 VSS (power) "Ground reference", 5 P2.7/XOUT/CA7 (io), 6 P2.6/XIN/CA6 (io), 7 ~{RST}/NMI (in), 8 P2.0/ACLK/CA2 (io), 9 P2.1/INCLK/CA3 (io), 10 P2.2/CAOUT/TA0/CA4 (io), 11 P2.3/CA0/TA1 (io), 12 P2.4/CA1/TA2 (io), 13 P1.0/TACLK (io), 14 P1.1/TA0 (io), 15 P1.2/TA1 (io), 16 P1.3/TA2 (io), 17 P1.4/SMCLK/TCK (io), 18 P1.5/TA0/TMS (io), 19 P1.6/TA1/TDI/TCLK (io), 20 P1.7/TA2/TDO/TDI (io)

## MSP430F2131IDGVR
designator U?
16 MHz Mixed Signal Microcontroller with 8 KB Flash, 256 B SRAM and 16 GPIOs, -40 to 85 degC, 20-pin SOP (DGV), Green (RoHS & no Sb/Br); Manufacturer: Texas Instruments; PartNumber: MSP430F2131IDGVR; ADC: Slope; Brown Out Reset: Yes; Flash(KB): 8; Frequency(MHz): 16; SRAM(B): 256; SubFamily: 2 Series, Extended Temp; Timers - 16-bit: 1; DatasheetVersion: SLAS439F; PackageVersion: 4073251/E; PackageReference: DGV20; PackageDescription: 20-Pin Plastic Small Outline, Body 4.4 x 5 mm, Pitch 0.4 mm; Supplier 1: Digi-Key; Supplier Part Number 1: 296-18116-ND; Supplier 2: Farnell; Supplier Part Number 2: 1753283; Supplier 3: Mouser; Supplier Part Number 3: 595-MSP430F2131IDGV; Comparators: Yes; Eco-Plan: Green (RoHS & no Sb/Br); GPIO: 16; Watchdog: Yes; Mounting Technology: Surface Mount; Code_JEDEC: MO-194; ComponentLink1Description: Manufacturer URL; ComponentLink1URL: http://www.ti.com/; ComponentLink2Description: Datasheet; ComponentLink2URL: http://www.ti.com/general/docs/lit/getliterature.tsp?genericPartNumber=MSP430F2131&fileType=pdf; ComponentLink3Description: Package Specification; ComponentLink3URL: http://www.ti.com/lit/ml/mpds006c/mpds006c.pdf
footprint TI-DGV20_N (SOP, 20-Leads, Body 5x4.4mm, Pitch 0.4mm, IPC Medium Density)
pins: 1 TEST (in) "Selects test mode for JTAG pins on Port1. The device protection fuse is connected to TEST.", 2 VCC (power) "Supply voltage", 3 P2.5/CA5 (io), 4 VSS (power) "Ground reference", 5 P2.7/XOUT/CA7 (io), 6 P2.6/XIN/CA6 (io), 7 ~{RST}/NMI (in), 8 P2.0/ACLK/CA2 (io), 9 P2.1/INCLK/CA3 (io), 10 P2.2/CAOUT/TA0/CA4 (io), 11 P2.3/CA0/TA1 (io), 12 P2.4/CA1/TA2 (io), 13 P1.0/TACLK (io), 14 P1.1/TA0 (io), 15 P1.2/TA1 (io), 16 P1.3/TA2 (io), 17 P1.4/SMCLK/TCK (io), 18 P1.5/TA0/TMS (io), 19 P1.6/TA1/TDI/TCLK (io), 20 P1.7/TA2/TDO/TDI (io)

## MSP430F2131IDW
designator U?
16 MHz Mixed Signal Microcontroller with 8 KB Flash, 256 B SRAM and 16 GPIOs, -40 to 85 degC, 20-pin SOIC (DW), Green (RoHS & no Sb/Br); Manufacturer: Texas Instruments; PartNumber: MSP430F2131IDW; ADC: Slope; Brown Out Reset: Yes; Flash(KB): 8; Frequency(MHz): 16; SRAM(B): 256; SubFamily: 2 Series, Extended Temp; Timers - 16-bit: 1; DatasheetVersion: SLAS439F; PackageVersion: 4040000-4/G; PackageReference: DW20; PackageDescription: 20-Pin Plastic Small Outline, Body 12.8 x 7.5 mm, Pitch 1.27 mm; Supplier 1: Digi-Key; Supplier Part Number 1: MSP430F2131IDGVR-ND; Supplier 2: Newark; Supplier Part Number 2: 43K4030; Supplier 3: Mouser; Supplier Part Number 3: 595-MSP430F2131IDGVR; Comparators: Yes; Eco-Plan: Green (RoHS & no Sb/Br); GPIO: 16; Watchdog: Yes; Mounting Technology: Surface Mount; Code_JEDEC: MO-013; ComponentLink1Description: Manufacturer URL; ComponentLink1URL: http://www.ti.com/; ComponentLink2Description: Datasheet; ComponentLink2URL: http://www.ti.com/general/docs/lit/getliterature.tsp?genericPartNumber=MSP430F2131&fileType=pdf; ComponentLink3Description: Package Specification; ComponentLink3URL: http://www.ti.com/lit/ml/mpds173a/mpds173a.pdf
footprint TI-DW20_N (SOIC, 20-Leads, Body 12.8x7.5mm, Pitch 1.27mm, IPC Medium Density)
pins: 1 TEST (in) "Selects test mode for JTAG pins on Port1. The device protection fuse is connected to TEST.", 2 VCC (power) "Supply voltage", 3 P2.5/CA5 (io), 4 VSS (power) "Ground reference", 5 P2.7/XOUT/CA7 (io), 6 P2.6/XIN/CA6 (io), 7 ~{RST}/NMI (in), 8 P2.0/ACLK/CA2 (io), 9 P2.1/INCLK/CA3 (io), 10 P2.2/CAOUT/TA0/CA4 (io), 11 P2.3/TA1/CA0 (io), 12 P2.4/TA2/CA1 (io), 13 P1.0/TACLK (io), 14 P1.1/TA0 (io), 15 P1.2/TA1 (io), 16 P1.3/TA2 (io), 17 P1.4/SMCLK/TCK (io), 18 P1.5/TA0/TMS (io), 19 P1.6/TA1/TDI/TCLK (io), 20 P1.7/TA2/TDO/TDI (io)

## MSP430F2131IDWR
designator U?
16 MHz Mixed Signal Microcontroller with 8 KB Flash, 256 B SRAM and 16 GPIOs, -40 to 85 degC, 20-pin SOIC (DW), Green (RoHS & no Sb/Br); Manufacturer: Texas Instruments; PartNumber: MSP430F2131IDWR; ADC: Slope; Brown Out Reset: Yes; Flash(KB): 8; Frequency(MHz): 16; SRAM(B): 256; SubFamily: 2 Series, Extended Temp; Timers - 16-bit: 1; DatasheetVersion: SLAS439F; PackageVersion: 4040000-4/G; PackageReference: DW20; PackageDescription: 20-Pin Plastic Small Outline, Body 12.8 x 7.5 mm, Pitch 1.27 mm; Supplier 1: Digi-Key; Supplier Part Number 1: 296-33425-5-ND; Supplier 2: Farnell; Supplier Part Number 2: 1470491; Supplier 3: Newark; Supplier Part Number 3: 43K4031; Supplier 4: Mouser; Supplier Part Number 4: 595-MSP430F2131IDW; Comparators: Yes; Eco-Plan: Green (RoHS & no Sb/Br); GPIO: 16; Watchdog: Yes; Mounting Technology: Surface Mount; Code_JEDEC: MO-013; ComponentLink1Description: Manufacturer URL; ComponentLink1URL: http://www.ti.com/; ComponentLink2Description: Datasheet; ComponentLink2URL: http://www.ti.com/general/docs/lit/getliterature.tsp?genericPartNumber=MSP430F2131&fileType=pdf; ComponentLink3Description: Package Specification; ComponentLink3URL: http://www.ti.com/lit/ml/mpds173a/mpds173a.pdf
footprint TI-DW20_N (SOIC, 20-Leads, Body 12.8x7.5mm, Pitch 1.27mm, IPC Medium Density)
pins: 1 TEST (in) "Selects test mode for JTAG pins on Port1. The device protection fuse is connected to TEST.", 2 VCC (power) "Supply voltage", 3 P2.5/CA5 (io), 4 VSS (power) "Ground reference", 5 P2.7/XOUT/CA7 (io), 6 P2.6/XIN/CA6 (io), 7 ~{RST}/NMI (in), 8 P2.0/ACLK/CA2 (io), 9 P2.1/INCLK/CA3 (io), 10 P2.2/CAOUT/TA0/CA4 (io), 11 P2.3/TA1/CA0 (io), 12 P2.4/TA2/CA1 (io), 13 P1.0/TACLK (io), 14 P1.1/TA0 (io), 15 P1.2/TA1 (io), 16 P1.3/TA2 (io), 17 P1.4/SMCLK/TCK (io), 18 P1.5/TA0/TMS (io), 19 P1.6/TA1/TDI/TCLK (io), 20 P1.7/TA2/TDO/TDI (io)

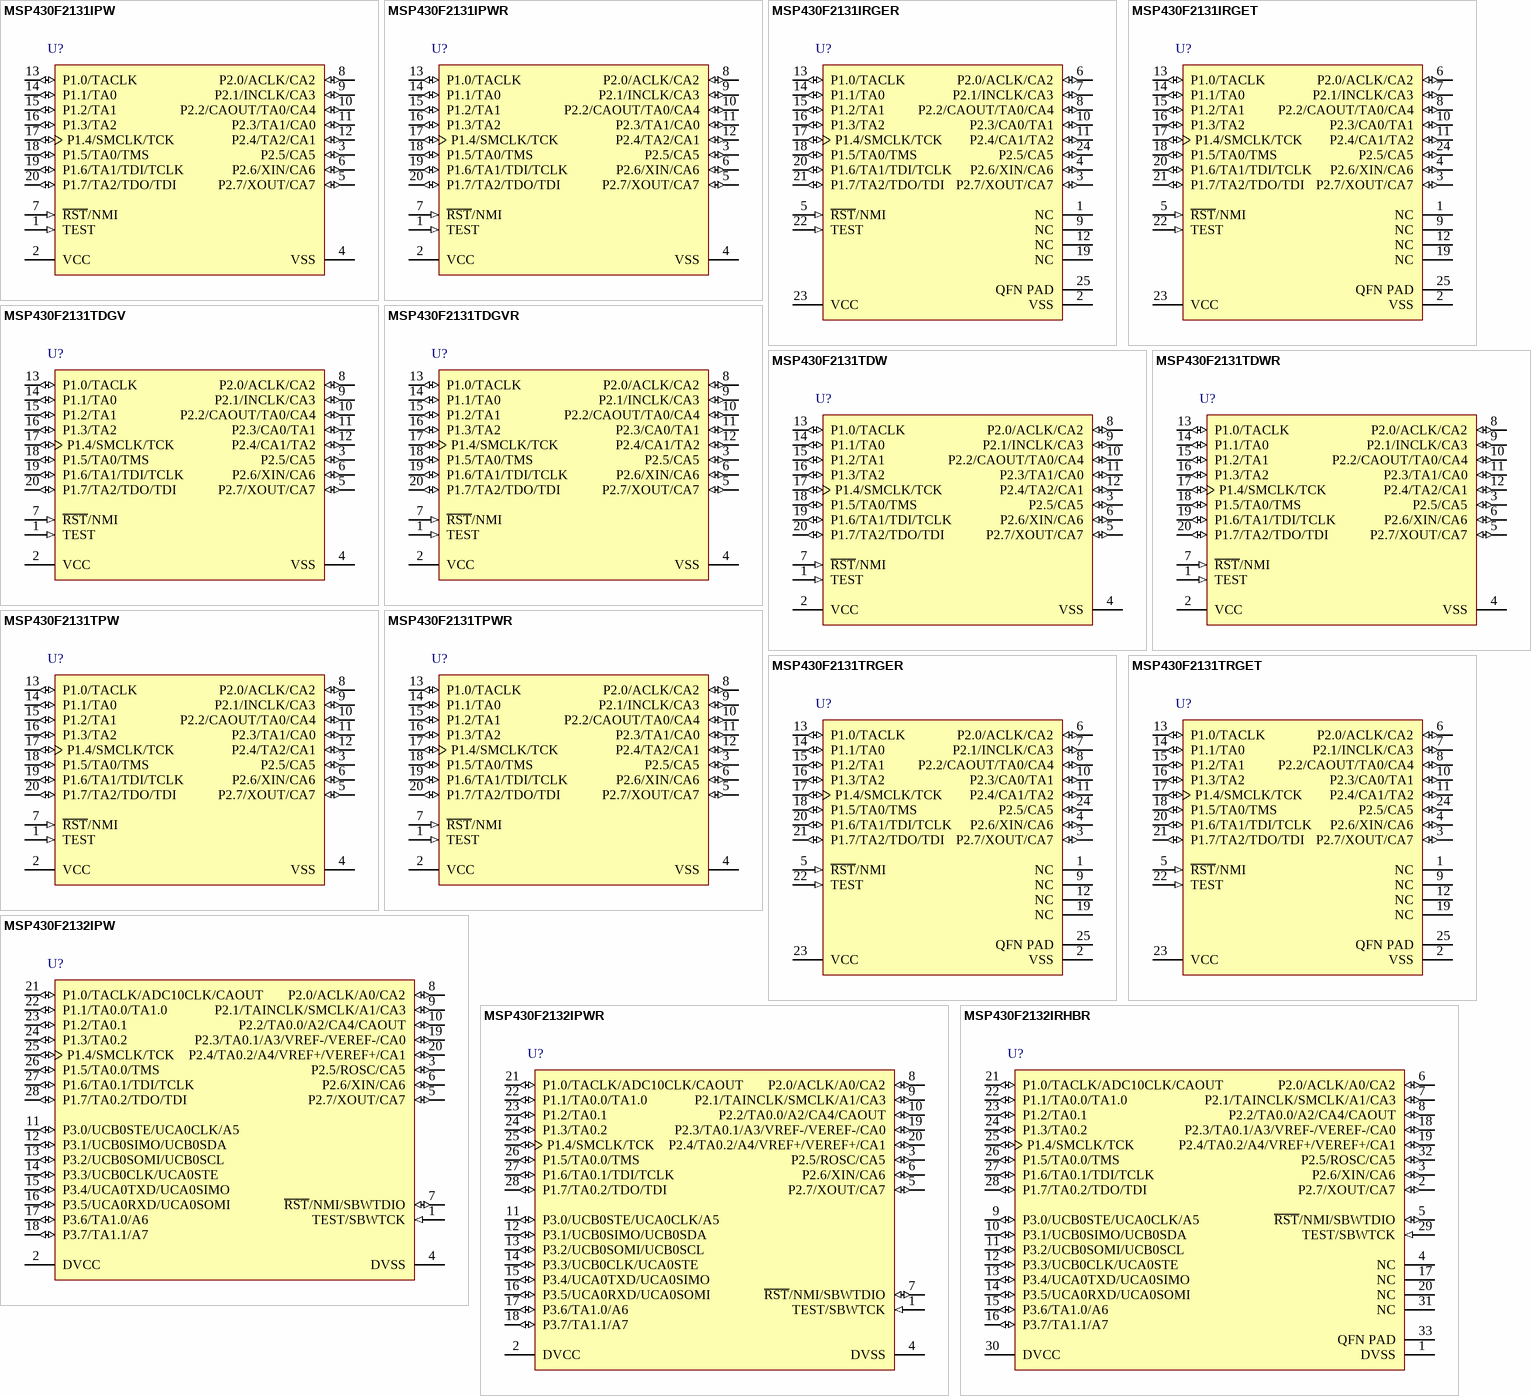
[diagram p57: symbols MSP430F2131IPW to MSP430F2132IRHBR]

## MSP430F2131IPW
designator U?
16 MHz Mixed Signal Microcontroller with 8 KB Flash, 256 B SRAM and 16 GPIOs, -40 to 85 degC, 20-pin SOP (PW), Green (RoHS & no Sb/Br); Manufacturer: Texas Instruments; PartNumber: MSP430F2131IPW; ADC: Slope; Brown Out Reset: Yes; Flash(KB): 8; Frequency(MHz): 16; SRAM(B): 256; SubFamily: 2 Series, Extended Temp; Timers - 16-bit: 1; DatasheetVersion: SLAS439F; PackageVersion: 4040064-5/G; PackageReference: PW20; PackageDescription: 20-Pin Plastic Small Outline, Body 6.5 x 4.4 mm, 0.65 mm Pitch; Supplier 1: Digi-Key; Supplier Part Number 1: 296-18117-2-ND; Supplier 2: Digi-Key; Supplier Part Number 2: 296-18117-1-ND; Supplier 3: Digi-Key; Supplier Part Number 3: 296-18117-6-ND; Supplier 4: Newark; Supplier Part Number 4: 43K4032; Supplier 5: Mouser; Supplier Part Number 5: 595-MSP430F2131IDWR; Comparators: Yes; Eco-Plan: Green (RoHS & no Sb/Br); GPIO: 16; Watchdog: Yes; Mounting Technology: Surface Mount; Code_JEDEC: MO-153; ComponentLink1Description: Manufacturer URL; ComponentLink1URL: http://www.ti.com/; ComponentLink2Description: Datasheet; ComponentLink2URL: http://www.ti.com/general/docs/lit/getliterature.tsp?genericPartNumber=MSP430F2131&fileType=pdf; ComponentLink3Description: Package Specification; ComponentLink3URL: http://www.ti.com.cn/cn/lit/ml/mpds362/mpds362.pdf
footprint TI-PW20_N (SOP, 20-Leads, Body 6.5x4.4mm, Pitch 0.65mm, IPC Medium Density)
pins: 1 TEST (in) "Selects test mode for JTAG pins on Port1. The device protection fuse is connected to TEST.", 2 VCC (power) "Supply voltage", 3 P2.5/CA5 (io), 4 VSS (power) "Ground reference", 5 P2.7/XOUT/CA7 (io), 6 P2.6/XIN/CA6 (io), 7 ~{RST}/NMI (in), 8 P2.0/ACLK/CA2 (io), 9 P2.1/INCLK/CA3 (io), 10 P2.2/CAOUT/TA0/CA4 (io), 11 P2.3/TA1/CA0 (io), 12 P2.4/TA2/CA1 (io), 13 P1.0/TACLK (io), 14 P1.1/TA0 (io), 15 P1.2/TA1 (io), 16 P1.3/TA2 (io), 17 P1.4/SMCLK/TCK (io), 18 P1.5/TA0/TMS (io), 19 P1.6/TA1/TDI/TCLK (io), 20 P1.7/TA2/TDO/TDI (io)

## MSP430F2131IPWR
designator U?
16 MHz Mixed Signal Microcontroller with 8 KB Flash, 256 B SRAM and 16 GPIOs, -40 to 85 degC, 20-pin SOP (PW), Green (RoHS & no Sb/Br); Manufacturer: Texas Instruments; PartNumber: MSP430F2131IPWR; ADC: Slope; Brown Out Reset: Yes; Flash(KB): 8; Frequency(MHz): 16; SRAM(B): 256; SubFamily: 2 Series, Extended Temp; Timers - 16-bit: 1; DatasheetVersion: SLAS439F; PackageVersion: 4040064-5/G; PackageReference: PW20; PackageDescription: 20-Pin Plastic Small Outline, Body 6.5 x 4.4 mm, 0.65 mm Pitch; Supplier 1: Digi-Key; Supplier Part Number 1: 296-26201-5-ND; Supplier 2: Farnell; Supplier Part Number 2: 1649414; Supplier 3: Newark; Supplier Part Number 3: 43K4033; Supplier 4: Mouser; Supplier Part Number 4: 595-MSP430F2131IPW; Comparators: Yes; Eco-Plan: Green (RoHS & no Sb/Br); GPIO: 16; Watchdog: Yes; Mounting Technology: Surface Mount; Code_JEDEC: MO-153; ComponentLink1Description: Manufacturer URL; ComponentLink1URL: http://www.ti.com/; ComponentLink2Description: Datasheet; ComponentLink2URL: http://www.ti.com/general/docs/lit/getliterature.tsp?genericPartNumber=MSP430F2131&fileType=pdf; ComponentLink3Description: Package Specification; ComponentLink3URL: http://www.ti.com.cn/cn/lit/ml/mpds362/mpds362.pdf
footprint TI-PW20_N (SOP, 20-Leads, Body 6.5x4.4mm, Pitch 0.65mm, IPC Medium Density)
pins: 1 TEST (in) "Selects test mode for JTAG pins on Port1. The device protection fuse is connected to TEST.", 2 VCC (power) "Supply voltage", 3 P2.5/CA5 (io), 4 VSS (power) "Ground reference", 5 P2.7/XOUT/CA7 (io), 6 P2.6/XIN/CA6 (io), 7 ~{RST}/NMI (in), 8 P2.0/ACLK/CA2 (io), 9 P2.1/INCLK/CA3 (io), 10 P2.2/CAOUT/TA0/CA4 (io), 11 P2.3/TA1/CA0 (io), 12 P2.4/TA2/CA1 (io), 13 P1.0/TACLK (io), 14 P1.1/TA0 (io), 15 P1.2/TA1 (io), 16 P1.3/TA2 (io), 17 P1.4/SMCLK/TCK (io), 18 P1.5/TA0/TMS (io), 19 P1.6/TA1/TDI/TCLK (io), 20 P1.7/TA2/TDO/TDI (io)

## MSP430F2131IRGER
designator U?
16 MHz Mixed Signal Microcontroller with 8 KB Flash, 256 B SRAM and 16 GPIOs, -40 to 85 degC, 24-pin QFN (RGE), Green (RoHS & no Sb/Br); Manufacturer: Texas Instruments; PartNumber: MSP430F2131IRGER; ADC: Slope; Brown Out Reset: Yes; Flash(KB): 8; Frequency(MHz): 16; SRAM(B): 256; SubFamily: 2 Series, Extended Temp; Timers - 16-bit: 1; DatasheetVersion: SLAS439F; PackageVersion: 4204104/G; PackageReference: RGE24-2450X2450TP; PackageDescription: 24-Pin Plastic Flat Pack, Body 4 x 4 mm, 0.5 mm Pitch; Supplier 1: Digi-Key; Supplier Part Number 1: 296-18118-2-ND; Supplier 2: Digi-Key; Supplier Part Number 2: 296-18118-1-ND; Supplier 3: Digi-Key; Supplier Part Number 3: 296-18118-6-ND; Supplier 4: Farnell; Supplier Part Number 4: 1846574; Supplier 5: Newark; Supplier Part Number 5: 43K4034; Supplier 6: Mouser; Supplier Part Number 6: 595-MSP430F2131IPWR; Comparators: Yes; Eco-Plan: Green (RoHS & no Sb/Br); GPIO: 16; Watchdog: Yes; Mounting Technology: Surface Mount; Code_JEDEC: MO-220; ComponentLink1Description: Manufacturer URL; ComponentLink1URL: http://www.ti.com/; ComponentLink2Description: Datasheet; ComponentLink2URL: http://www.ti.com/general/docs/lit/getliterature.tsp?genericPartNumber=MSP430F2131&fileType=pdf; ComponentLink3Description: Package Specification; ComponentLink3URL: http://www.ti.com/litv/pdf/mpqf124f
footprint TI-RGE24-2450X2450TP_N (QFN, 24-Leads, Body 4x4mm, Pitch 0.5mm, Thermal Pad 2.45x2.45mm, IPC Medium Density)
pins: 1 NC "Not internally connected", 2 VSS (power) "Ground reference", 3 P2.7/XOUT/CA7 (io), 4 P2.6/XIN/CA6 (io), 5 ~{RST}/NMI (in), 6 P2.0/ACLK/CA2 (io), 7 P2.1/INCLK/CA3 (io), 8 P2.2/CAOUT/TA0/CA4 (io), 9 NC "Not internally connected", 10 P2.3/CA0/TA1 (io), 11 P2.4/CA1/TA2 (io), 12 NC "Not internally connected", 13 P1.0/TACLK (io), 14 P1.1/TA0 (io), 15 P1.2/TA1 (io), 16 P1.3/TA2 (io), 17 P1.4/SMCLK/TCK (io), 18 P1.5/TA0/TMS (io), 19 NC "Not internally connected", 20 P1.6/TA1/TDI/TCLK (io), 21 P1.7/TA2/TDO/TDI (io), 22 TEST (in) "Selects test mode for JTAG pins on Port1. The device protection fuse is connected to TEST.", 23 VCC (power) "Supply voltage", 24 P2.5/CA5 (io), 25 QFN PAD (power) "QFN package thermal pad. Connect to VSS."

## MSP430F2131IRGET
designator U?
16 MHz Mixed Signal Microcontroller with 8 KB Flash, 256 B SRAM and 16 GPIOs, -40 to 85 degC, 24-pin QFN (RGE), Green (RoHS & no Sb/Br); Manufacturer: Texas Instruments; PartNumber: MSP430F2131IRGET; ADC: Slope; Brown Out Reset: Yes; Flash(KB): 8; Frequency(MHz): 16; SRAM(B): 256; SubFamily: 2 Series, Extended Temp; Timers - 16-bit: 1; DatasheetVersion: SLAS439F; PackageVersion: 4204104/G; PackageReference: RGE24-2450X2450TP; PackageDescription: 24-Pin Plastic Flat Pack, Body 4 x 4 mm, 0.5 mm Pitch; Supplier 1: Digi-Key; Supplier Part Number 1: MSP430F2131IRGER-ND; Supplier 2: Newark; Supplier Part Number 2: 43K4035; Supplier 3: Mouser; Supplier Part Number 3: 595-MSP430F2131IRGER; Comparators: Yes; Eco-Plan: Green (RoHS & no Sb/Br); GPIO: 16; Watchdog: Yes; Mounting Technology: Surface Mount; Code_JEDEC: MO-220; ComponentLink1Description: Manufacturer URL; ComponentLink1URL: http://www.ti.com/; ComponentLink2Description: Datasheet; ComponentLink2URL: http://www.ti.com/general/docs/lit/getliterature.tsp?genericPartNumber=MSP430F2131&fileType=pdf; ComponentLink3Description: Package Specification; ComponentLink3URL: http://www.ti.com/litv/pdf/mpqf124f
footprint TI-RGE24-2450X2450TP_N (QFN, 24-Leads, Body 4x4mm, Pitch 0.5mm, Thermal Pad 2.45x2.45mm, IPC Medium Density)
pins: 1 NC "Not internally connected", 2 VSS (power) "Ground reference", 3 P2.7/XOUT/CA7 (io), 4 P2.6/XIN/CA6 (io), 5 ~{RST}/NMI (in), 6 P2.0/ACLK/CA2 (io), 7 P2.1/INCLK/CA3 (io), 8 P2.2/CAOUT/TA0/CA4 (io), 9 NC "Not internally connected", 10 P2.3/CA0/TA1 (io), 11 P2.4/CA1/TA2 (io), 12 NC "Not internally connected", 13 P1.0/TACLK (io), 14 P1.1/TA0 (io), 15 P1.2/TA1 (io), 16 P1.3/TA2 (io), 17 P1.4/SMCLK/TCK (io), 18 P1.5/TA0/TMS (io), 19 NC "Not internally connected", 20 P1.6/TA1/TDI/TCLK (io), 21 P1.7/TA2/TDO/TDI (io), 22 TEST (in) "Selects test mode for JTAG pins on Port1. The device protection fuse is connected to TEST.", 23 VCC (power) "Supply voltage", 24 P2.5/CA5 (io), 25 QFN PAD (power) "QFN package thermal pad. Connect to VSS."

## MSP430F2131TDGV
designator U?
16 MHz Mixed Signal Microcontroller with 8 KB Flash, 256 B SRAM and 16 GPIOs, -40 to 105 degC, 20-pin SOP (DGV), Green (RoHS & no Sb/Br); Manufacturer: Texas Instruments; PartNumber: MSP430F2131TDGV; ADC: Slope; Brown Out Reset: Yes; Flash(KB): 8; Frequency(MHz): 16; SRAM(B): 256; SubFamily: 2 Series, Extended Temp; Timers - 16-bit: 1; DatasheetVersion: SLAS439F; PackageVersion: 4073251/E; PackageReference: DGV20; PackageDescription: 20-Pin Plastic Small Outline, Body 4.4 x 5 mm, Pitch 0.4 mm; Supplier 1: Digi-Key; Supplier Part Number 1: 296-18119-2-ND; Supplier 2: Digi-Key; Supplier Part Number 2: 296-18119-1-ND; Supplier 3: Digi-Key; Supplier Part Number 3: 296-18119-6-ND; Supplier 4: Farnell; Supplier Part Number 4: 1537186; Supplier 5: Newark; Supplier Part Number 5: 43K4036; Supplier 6: Mouser; Supplier Part Number 6: 595-MSP430F2131IRGET; Comparators: Yes; Eco-Plan: Green (RoHS & no Sb/Br); GPIO: 16; Watchdog: Yes; Mounting Technology: Surface Mount; Code_JEDEC: MO-194; ComponentLink1Description: Manufacturer URL; ComponentLink1URL: http://www.ti.com/; ComponentLink2Description: Datasheet; ComponentLink2URL: http://www.ti.com/general/docs/lit/getliterature.tsp?genericPartNumber=MSP430F2131&fileType=pdf; ComponentLink3Description: Package Specification; ComponentLink3URL: http://www.ti.com/lit/ml/mpds006c/mpds006c.pdf
footprint TI-DGV20_N (SOP, 20-Leads, Body 5x4.4mm, Pitch 0.4mm, IPC Medium Density)
pins: 1 TEST (in) "Selects test mode for JTAG pins on Port1. The device protection fuse is connected to TEST.", 2 VCC (power) "Supply voltage", 3 P2.5/CA5 (io), 4 VSS (power) "Ground reference", 5 P2.7/XOUT/CA7 (io), 6 P2.6/XIN/CA6 (io), 7 ~{RST}/NMI (in), 8 P2.0/ACLK/CA2 (io), 9 P2.1/INCLK/CA3 (io), 10 P2.2/CAOUT/TA0/CA4 (io), 11 P2.3/CA0/TA1 (io), 12 P2.4/CA1/TA2 (io), 13 P1.0/TACLK (io), 14 P1.1/TA0 (io), 15 P1.2/TA1 (io), 16 P1.3/TA2 (io), 17 P1.4/SMCLK/TCK (io), 18 P1.5/TA0/TMS (io), 19 P1.6/TA1/TDI/TCLK (io), 20 P1.7/TA2/TDO/TDI (io)